# EAGLE library part ACS711_SOIC8 (library jonsowman)
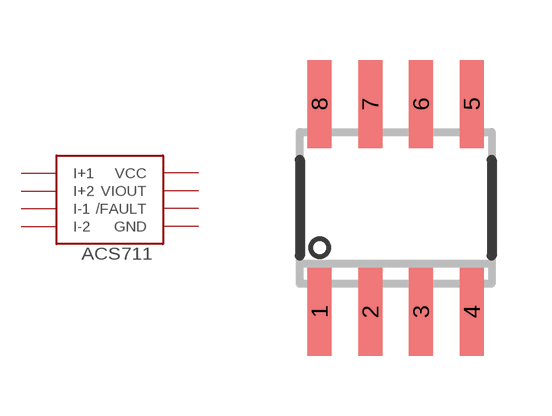
[diagram p11: symbol with the pads of SOIC8; footprint SOIC8]

Designator prefix -

## ACS711_SOIC8  [SOIC8]
1  I+1
2  I+2
3  I-1
4  I-2
5  GND
6  /FAULT
7  VIOUT
8  VCC

## Footprint SOIC8 (pad centres in mm)
Small Outline IC
smd 0.6 x 2.2: 1 -1.905,-2.6; 2 -0.635,-2.6; 3 0.635,-2.6; 4 1.905,-2.6; 5 1.905,2.6; 6 0.635,2.6; 7 -0.635,2.6; 8 -1.905,2.6